# Altium footprint library MEGA2560_Rev3e.PcbLib: 29 footprints (part 1 of 2)
Each footprint in its own frame and in the unit in brackets; x right, y up, seen from the top. Pads: shape width x height; smd on the part's side, far side on the other; paste and mask are expansions set on the pad; w line width, h text height; cw(c..) or ccw(c..) is an arc to the next point about the centre after c.
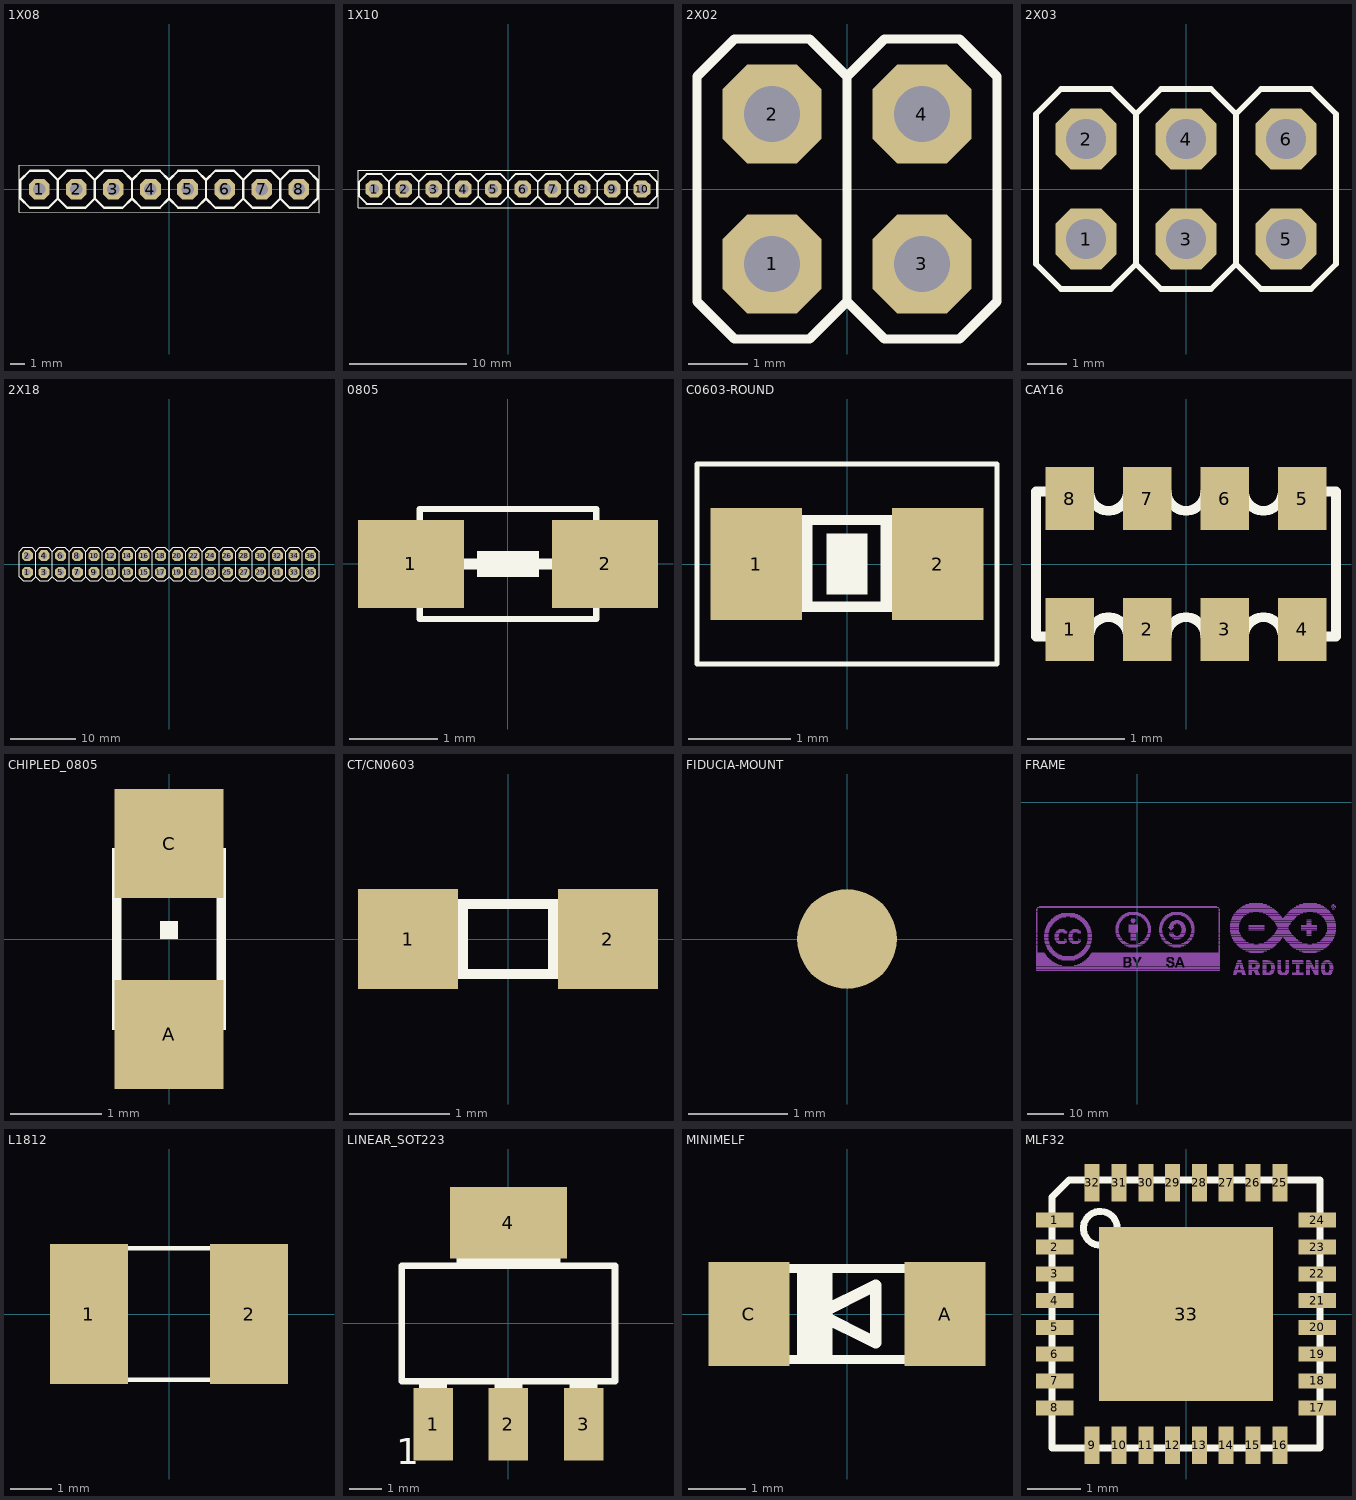
[diagram p0: the footprints below, top view; thin cyan lines are the x and y axes]

## 1X08 [mil]
pads (8):
  oct 56x56 hole 33.46: 1(-350,0) 2(-250,0) 3(-150,0) 4(-50,0) 5(50,0) 6(150,0) 7(250,0) 8(350,0)
Top Overlay:
  rectangle: 240,-10 260,10
  rectangle: 140,-10 160,10
  rectangle: 40,-10 60,10
  rectangle: -60,-10 -40,10
  rectangle: -160,-10 -140,10
  rectangle: -260,-10 -240,10
  rectangle: -360,-10 -340,10
  rectangle: 340,-10 360,10
  lines w1.97: -404.33,-61.81 404.33,-62.99 404.33,62.99 -404.33,64.17 -404.33,-61.81
  lines w6: -300,-25 -300,25 ; -300,-25 -325,-50 -375,-50 -400,-25 -400,25 -375,50 -325,50 -300,25 ; -300,-25 -275,-50 -225,-50 -200,-25 ; -300,25 -275,50 -225,50 -200,25 ; -200,-25 -175,-50 -125,-50 -100,-25 ; -200,-25 -200,25 ; -200,25 -175,50 -125,50 -100,25 ; -100,-25 -100,25 ; -100,-25 -75,-50 -25,-50 0,-25 ; -100,25 -75,50 -25,50 0,25 ; 0,-25 0,25 ; 0,-25 25,-50 75,-50 100,-25 ; 0,25 25,50 75,50 100,25 ; 100,-25 125,-50 175,-50 200,-25 ; 100,-25 100,25 ; 100,25 125,50 175,50 200,25 ; 200,-25 200,25 ; 200,-25 225,-50 275,-50 300,-25 ; 200,25 225,50 275,50 300,25 ; 300,-25 300,25 ; 300,-25 325,-50 375,-50 400,-25 400,25 375,50 325,50 300,25

## 1X10 [mil]
pads (10):
  oct 56x56 hole 33.46: 1(-450,0) 2(-350,0) 3(-250,0) 4(-150,0) 5(-50,0) 6(50,0) 7(150,0) 8(250,0) 9(350,0) 10(450,0)
Top Overlay:
  rectangle: 440,-10 460,10
  rectangle: -460,-10 -440,10
  rectangle: -360,-10 -340,10
  rectangle: -260,-10 -240,10
  rectangle: -160,-10 -140,10
  rectangle: -60,-10 -40,10
  rectangle: 40,-10 60,10
  rectangle: 140,-10 160,10
  rectangle: 240,-10 260,10
  rectangle: 340,-10 360,10
  lines w1.97: -503.94,-62.99 -503.94,62.99 503.94,62.99 503.94,-62.99 -503.94,-62.99
  lines w6: -400,-25 -375,-50 -325,-50 -300,-25 ; -400,-25 -425,-50 -475,-50 -500,-25 -500,25 -475,50 -425,50 -400,25 ; -400,-25 -400,25 ; -400,25 -375,50 -325,50 -300,25 ; -300,-25 -300,25 ; -300,-25 -275,-50 -225,-50 -200,-25 ; -300,25 -275,50 -225,50 -200,25 ; -200,-25 -175,-50 -125,-50 -100,-25 ; -200,-25 -200,25 ; -200,25 -175,50 -125,50 -100,25 ; -100,-25 -75,-50 -25,-50 0,-25 ; -100,-25 -100,25 ; -100,25 -75,50 -25,50 0,25 ; 0,-25 0,25 ; 0,-25 25,-50 75,-50 100,-25 ; 0,25 25,50 75,50 100,25 ; 100,-25 125,-50 175,-50 200,-25 ; 100,-25 100,25 ; 100,25 125,50 175,50 200,25 ; 200,-25 225,-50 275,-50 300,-25 ; 200,-25 200,25 ; 200,25 225,50 275,50 300,25 ; 300,-25 300,25 ; 300,-25 325,-50 375,-50 400,-25 ; 300,25 325,50 375,50 400,25 ; 400,-25 425,-50 475,-50 500,-25 500,25 475,50 425,50 400,25 ; 400,-25 400,25

## 2X02 [mil]
pads (4):
  oct 66x66 hole 37.4: 1(-50,-50) 2(-50,50) 3(50,-50) 4(50,50)
Top Overlay:
  rectangle: 40,-60 60,-40
  rectangle: 40,40 60,60
  rectangle: -60,40 -40,60
  rectangle: -60,-60 -40,-40
  lines w6: 0,-75 0,75 ; 0,-75 25,-100 75,-100 100,-75 100,75 75,100 25,100 0,75 ; 0,-75 -25,-100 -75,-100 -100,-75 -100,75 -75,100 -25,100 0,75

## 2X03 [mm]
pads (6):
  oct 1.55x1.55 hole 1.016: 1(-2.54,-1.27) 2(-2.54,1.27) 3(0,-1.27) 4(0,1.27) 5(2.54,-1.27) 6(2.54,1.27)
Top Overlay:
  rectangle: 2.286,-1.524 2.794,-1.016
  rectangle: 2.286,1.016 2.794,1.524
  rectangle: -0.254,-1.524 0.254,-1.016
  rectangle: -0.254,1.016 0.254,1.524
  rectangle: -2.794,1.016 -2.286,1.524
  rectangle: -2.794,-1.524 -2.286,-1.016
  lines w0.152: -1.27,-1.905 -1.27,1.905 ; -1.27,-1.905 -0.635,-2.54 0.635,-2.54 1.27,-1.905 ; -1.27,-1.905 -1.905,-2.54 -3.175,-2.54 -3.81,-1.905 -3.81,1.905 -3.175,2.54 -1.905,2.54 -1.27,1.905 ; -1.27,1.905 -0.635,2.54 0.635,2.54 1.27,1.905 ; 1.27,-1.905 1.905,-2.54 3.175,-2.54 3.81,-1.905 3.81,1.905 3.175,2.54 1.905,2.54 1.27,1.905 ; 1.27,-1.905 1.27,1.905

## 2X18 [mil]
pads (36):
  oct 66x66 hole 37.4: 1(-850,-50) 2(-850,50) 3(-750,-50) 4(-750,50) 5(-650,-50) 6(-650,50) 7(-550,-50) 8(-550,50) 9(-450,-50) 10(-450,50) 11(-350,-50) 12(-350,50) 13(-250,-50) 14(-250,50) 15(-150,-50) 16(-150,50) 17(-50,-50) 18(-50,50) 19(50,-50) 20(50,50) 21(150,-50) 22(150,50) 23(250,-50) 24(250,50) 25(350,-50) 26(350,50) 27(450,-50) 28(450,50) 29(550,-50) 30(550,50) 31(650,-50) 32(650,50) 33(750,-50) 34(750,50) 35(850,-50) 36(850,50)
Top Overlay:
  drawing of 163 lines, arcs and shapes, not listed

## 0805 [mm]
pads (2):
  rect 1.2x1 smd: 1(-1.1,0) 2(1.1,0)
Top Overlay:
  rectangle: -0.35,-0.15 0.35,0.15
  lines w0.07: -1,-0.625 -1,0.625 1,0.625 1,-0.625 -1,-0.625
  lines w0.127: -1.3,0 1.2,0 ; -1.1,0 1.1,0

## C0603-ROUND [mm]
pads (2):
  rect 0.898x1.1 smd: 1(-0.889,0) 2(0.889,0)
Top Overlay:
  rectangle: -0.2,-0.3 0.2,0.3
  rectangle: -0.838,-0.47 -0.338,0.48
  rectangle: 0.33,-0.47 0.83,0.48
  lines w0.051: -1.473,-0.983 1.473,-0.983 1.473,0.983 -1.473,0.983 -1.473,-0.983
  lines w0.102: -0.356,-0.419 0.356,-0.419 ; -0.356,0.432 0.356,0.432

## CAY16 [mm]
pads (8):
  rect 0.5x0.65 smd: 1(-1.2,-0.675) 2(-0.4,-0.675) 3(0.4,-0.675) 4(1.2,-0.675) 5(1.2,0.675) 6(0.4,0.675) 7(-0.4,0.675) 8(-1.2,0.675)
Top Overlay:
  lines w0.102: -0.6,-0.75 ccw(c-0.8,-0.75) -1,-0.75 -1.55,-0.75 -1.55,0.75 -1,0.75 ccw(c-0.8,0.75) -0.6,0.75 ; -0.6,-0.75 -0.2,-0.75 ; -0.6,0.75 -0.2,0.75 ; -0.2,-0.75 cw(c0,-0.75) 0.2,-0.75 0.6,-0.75 cw(c0.8,-0.75) 1,-0.75 1.55,-0.75 1.55,0.75 1,0.75 cw(c0.8,0.75) 0.6,0.75 0.2,0.75 cw(c0,0.75) -0.2,0.75

## CHIPLED_0805 [mm]
pads (2):
  rect 1.2x1.2 smd: A(0,-1.05) C(0,1.05)
Top Overlay:
  circle w0.102: c-0.45,0.85 r0.103
  rectangle: 0.3,0.5 0.625,1
  rectangle: -0.325,0.5 -0.175,0.75
  rectangle: 0.175,0.5 0.325,0.75
  rectangle: -0.2,0.5 0.2,0.675
  rectangle: 0.3,-1 0.625,-0.5
  rectangle: -0.625,-1 -0.3,-0.5
  rectangle: 0.175,-0.75 0.325,-0.5
  rectangle: -0.325,-0.75 -0.175,-0.5
  rectangle: -0.2,-0.675 0.2,-0.5
  rectangle: -0.1,0 0.1,0.2
  rectangle: -0.6,0.5 -0.3,0.8
  rectangle: -0.625,0.925 -0.3,1
  lines w0.102: -0.575,-0.5 -0.575,0.925 ; -0.35,-0.925 cw(c0,-0.979) 0.35,-0.925 ; -0.35,0.925 ccw(c0,0.979) 0.35,0.925 ; 0.575,-0.525 0.575,0.525

## CT/CN0603 [mm]
pads (2):
  rect 1x1 smd: 1(-1,0) 2(1,0)
Top Overlay:
  region: 0.75,0.35 0.4,0.35 0.4,-0.35 0.75,-0.35
  rectangle: -0.75,-0.35 -0.4,0.35
  lines w0.102: -0.75,-0.35 -0.75,0.35 0.75,0.35 0.75,-0.35 -0.75,-0.35

## FIDUCIA-MOUNT [mm]
pads (1):
  round 1 smd: ""(0,0)
Top Solder:
  circle w0.02: c0,0 r1.5
  circle w0.02: c0,0 r0.65
  region: 0,-1.507 -0.294,-1.478 -0.577,-1.393 -0.837,-1.253 -1.066,-1.066 -1.253,-0.837 -1.393,-0.577 -1.478,-0.294 -1.507,0 -1.478,0.294 -1.393,0.577 -1.253,0.837 -1.066,1.066 -0.837,1.253 -0.577,1.393 -0.294,1.478 0,1.507 0.294,1.478 0.577,1.393 0.837,1.253 1.066,1.066 1.253,0.837 1.393,0.577 1.478,0.294 1.507,0 1.478,-0.294 1.393,-0.577 1.253,-0.837 1.066,-1.066 0.837,-1.253 0.577,-1.393 0.294,-1.478

## FRAME [mm]
Mechanical 2:
  drawing of 6280 lines, arcs and shapes, not listed
  text "Reference Designs ARE PROVIDED \"AS IS\" AND \"WITH ALL FAULTS. Arduino SA DISCLAIMS ALL OTHER WARRANTIES, EXPRESS OR IMPLIED," at -78.74,-25.4 h1.5

## L1812 [mm]
pads (2):
  rect 1.9x3.4 smd: 1(-1.95,0) 2(1.95,0)
Top Overlay:
  rectangle: -2.388,-1.651 -1.438,1.649
  rectangle: 1.448,-1.651 2.398,1.649
  lines w0.102: -1.473,1.6 1.473,1.6 ; -1.448,-1.6 1.473,-1.6

## LINEAR_SOT223 [mil]
pads (4):
  rect 48x88 smd: 1(-91,-122) 2(0,-122) 3(91,-122)
  rect 141.73x86.61 smd: 4(0,122.01)
Top Overlay:
  rectangle: 74,-144 108,-71
  rectangle: -108,-144 -74,-71
  rectangle: -17,-144 17,-71
  rectangle: -63,71 63,144
  rectangle: 74,-144 108,-71
  rectangle: -108,-144 -74,-71
  rectangle: -17,-144 17,-71
  rectangle: -63,71 63,144
  lines w8: -129,-70 -129,70 129,70 129,-70 -129,-70
  text "1" at -135.93,-170 h32

## MINIMELF [mm]
pads (2):
  rect 1.4x1.8 smd: A(1.7,0) C(-1.7,0)
Top Overlay:
  rectangle: -0.864,-0.787 -0.254,0.787
  rectangle: 1.295,-0.864 1.854,0.864
  rectangle: -1.854,-0.864 -1.295,0.864
  lines w0.152: -1.321,-0.787 1.321,-0.787 ; -1.321,0.787 1.321,0.787
  lines w0.203: -0.5,0 0.5,-0.5 0.5,0.5 -0.5,0

## MLF32 [mm]
pads (33):
  rect 0.7x0.28 smd: 1(-2.45,1.75) 2(-2.45,1.25) 3(-2.45,0.75) 4(-2.45,0.25) 5(-2.45,-0.25) 6(-2.45,-0.75) 7(-2.45,-1.25) 8(-2.45,-1.75) 17(2.45,-1.75) 18(2.45,-1.25) 19(2.45,-0.75) 20(2.45,-0.25) 21(2.45,0.25) 22(2.45,0.75) 23(2.45,1.25) 24(2.45,1.75)
  rect 0.28x0.7 smd: 9(-1.75,-2.45) 10(-1.25,-2.45) 11(-0.75,-2.45) 12(-0.25,-2.45) 13(0.25,-2.45) 14(0.75,-2.45) 15(1.25,-2.45) 16(1.75,-2.45) 25(1.75,2.45) 26(1.25,2.45) 27(0.75,2.45) 28(0.25,2.45) 29(-0.25,2.45) 30(-0.75,2.45) 31(-1.25,2.45) 32(-1.75,2.45)
  rect 3.254x3.254 smd: 33(0,0)
Top Layer:
  rectangle: -0.635,-0.635 0.635,0.635
Top Overlay:
  circle w0.127: c-1.6,1.6 r0.316
  lines w0.127: -2.5,-2.5 -2.5,2.183 -2.183,2.5 2.5,2.5 2.5,-2.5 -2.5,-2.5